# EAGLE library part OP1177ARMZ (library jpnewman)
Bias Current Operational Amplifiers
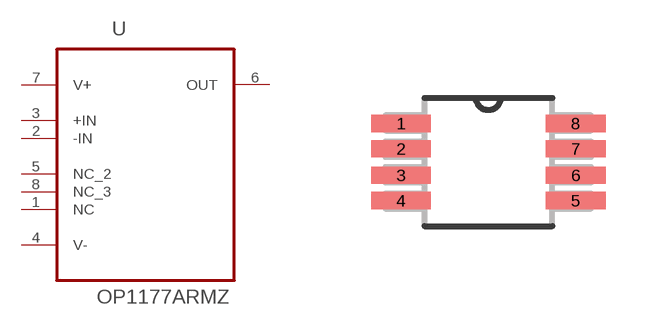
[diagram p7: symbol with the pads of SOP65P490X110-8N; footprint SOP65P490X110-8N]

Designator prefix U

## OP1177ARMZ (MPN: OP1177ARMZ; OC_FARNELL: 2074880; OC_NEWARK: 22P9695; PACKAGE: MSOP-8; SUPPLIER: Analog Devices)  [SOP65P490X110-8N]
1  NC  nc
2  -IN  in
3  +IN  in
4  V-  pwr
5  NC_2  nc
6  OUT  out
7  V+  pwr
8  NC_3  nc

## Footprint SOP65P490X110-8N (pad centres in mm)
smd 1.499 x 0.432: 1 -2.184,0.965; 2 -2.184,0.33; 3 -2.184,-0.33; 4 -2.184,-0.965; 5 2.184,-0.965; 6 2.184,-0.33; 7 2.184,0.33; 8 2.184,0.965